# EAGLE library part TS3A5017DR-SERIAL-MULTIPLEXER (library work)
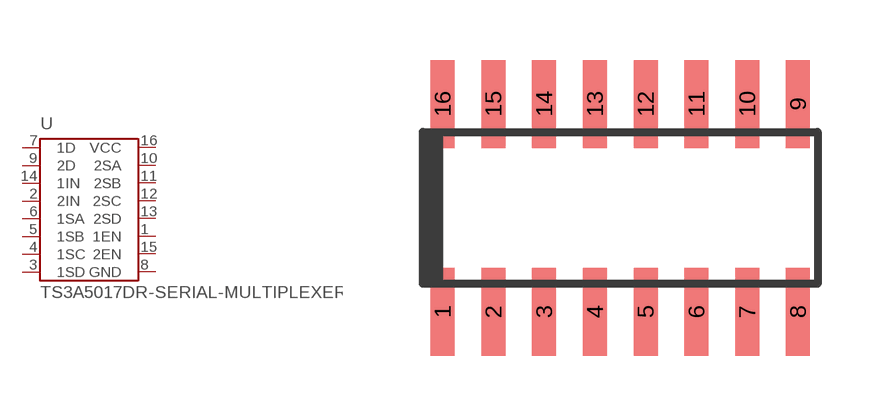
[diagram p0: symbol with the pads of TSOIC-16; footprint TSOIC-16]

Designator prefix U

## TS3A5017DR-SERIAL-MULTIPLEXER  [TSOIC-16]
1  1EN
2  2IN
3  1SD
4  1SC
5  1SB
6  1SA
7  1D
8  GND
9  2D
10  2SA
11  2SB
12  2SC
13  2SD
14  1IN
15  2EN
16  VCC

## Footprint TSOIC-16 (pad centres in mm)
smd 0.6 x 2.2: 1 -4.445,-2.6; 2 -3.175,-2.6; 3 -1.905,-2.6; 4 -0.635,-2.6; 5 0.635,-2.6; 6 1.905,-2.6; 7 3.175,-2.6; 8 4.445,-2.6; 9 4.445,2.6; 10 3.175,2.6; 11 1.905,2.6; 12 0.635,2.6; 13 -0.635,2.6; 14 -1.905,2.6; 15 -3.175,2.6; 16 -4.445,2.6